# EAGLE library part LM384_AUDIO_POWER_AMP (library Ultrasonic Audio Amp)
IC AMP CLASS AB MONO 5.5W 14DIP
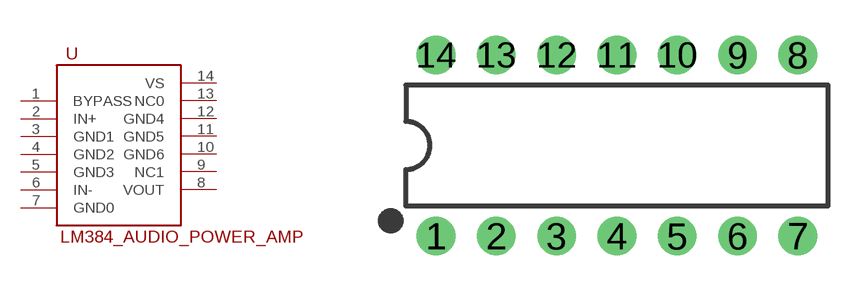
[diagram p0: symbol with the pads of DIP14; footprint DIP14]

Designator prefix -

## LM384_AUDIO_POWER_AMP  [DIP14]
1  BYPASS
2  IN+
3  GND1
4  GND2
5  GND3
6  IN-
7  GND0
8  VOUT
9  NC1
10  GND6
11  GND5
12  GND4
13  NC0
14  VS

## Footprint DIP14 (pad centres in mm)
drill 0.813 pad 1.626: 1 -7.62,-3.81; 2 -5.08,-3.81; 3 -2.54,-3.81; 4 0,-3.81; 5 2.54,-3.81; 6 5.08,-3.81; 7 7.62,-3.81; 8 7.62,3.81; 9 5.08,3.81; 10 2.54,3.81; 11 0,3.81; 12 -2.54,3.81; 13 -5.08,3.81; 14 -7.62,3.81